# EAGLE library part ISL83485 (library pie)
RS-485 Transceiver
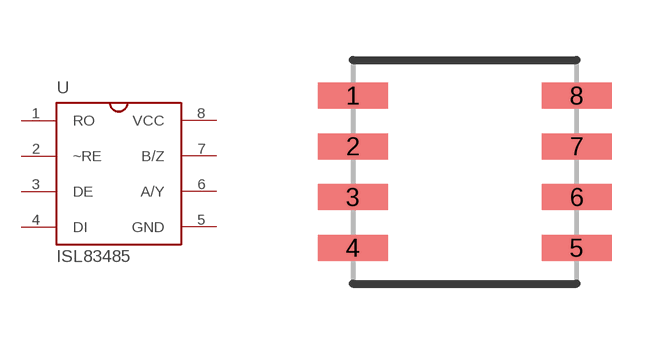
[diagram p15: symbol with the pads of 8-PIN_SOIC; footprint 8-PIN_SOIC]

Designator prefix -

## ISL83485  [8-PIN_SOIC]
1  RO
2  ~RE
3  DE
4  DI
5  GND
6  A/Y
7  B/Z
8  VCC

## Footprint 8-PIN_SOIC (pad centres in mm)
Generic SOIC package Drawings <http://glacier.lbl.gov/gtp/DOM/dataSheets/soic8_dim.pdf>
smd 1.75 x 0.65: 1 -2.8,1.905; 2 -2.8,0.635; 3 -2.8,-0.635; 4 -2.8,-1.905; 5 2.8,-1.905; 6 2.8,-0.635; 7 2.8,0.635; 8 2.8,1.905